# Altium footprint library GH_PcbLib.PcbLib: 29 footprints (part 1 of 2)
Each footprint in its own frame and in the unit in brackets; x right, y up, seen from the top. Pads: shape width x height; smd on the part's side, far side on the other; paste and mask are expansions set on the pad; w line width, h text height; cw(c..) or ccw(c..) is an arc to the next point about the centre after c.
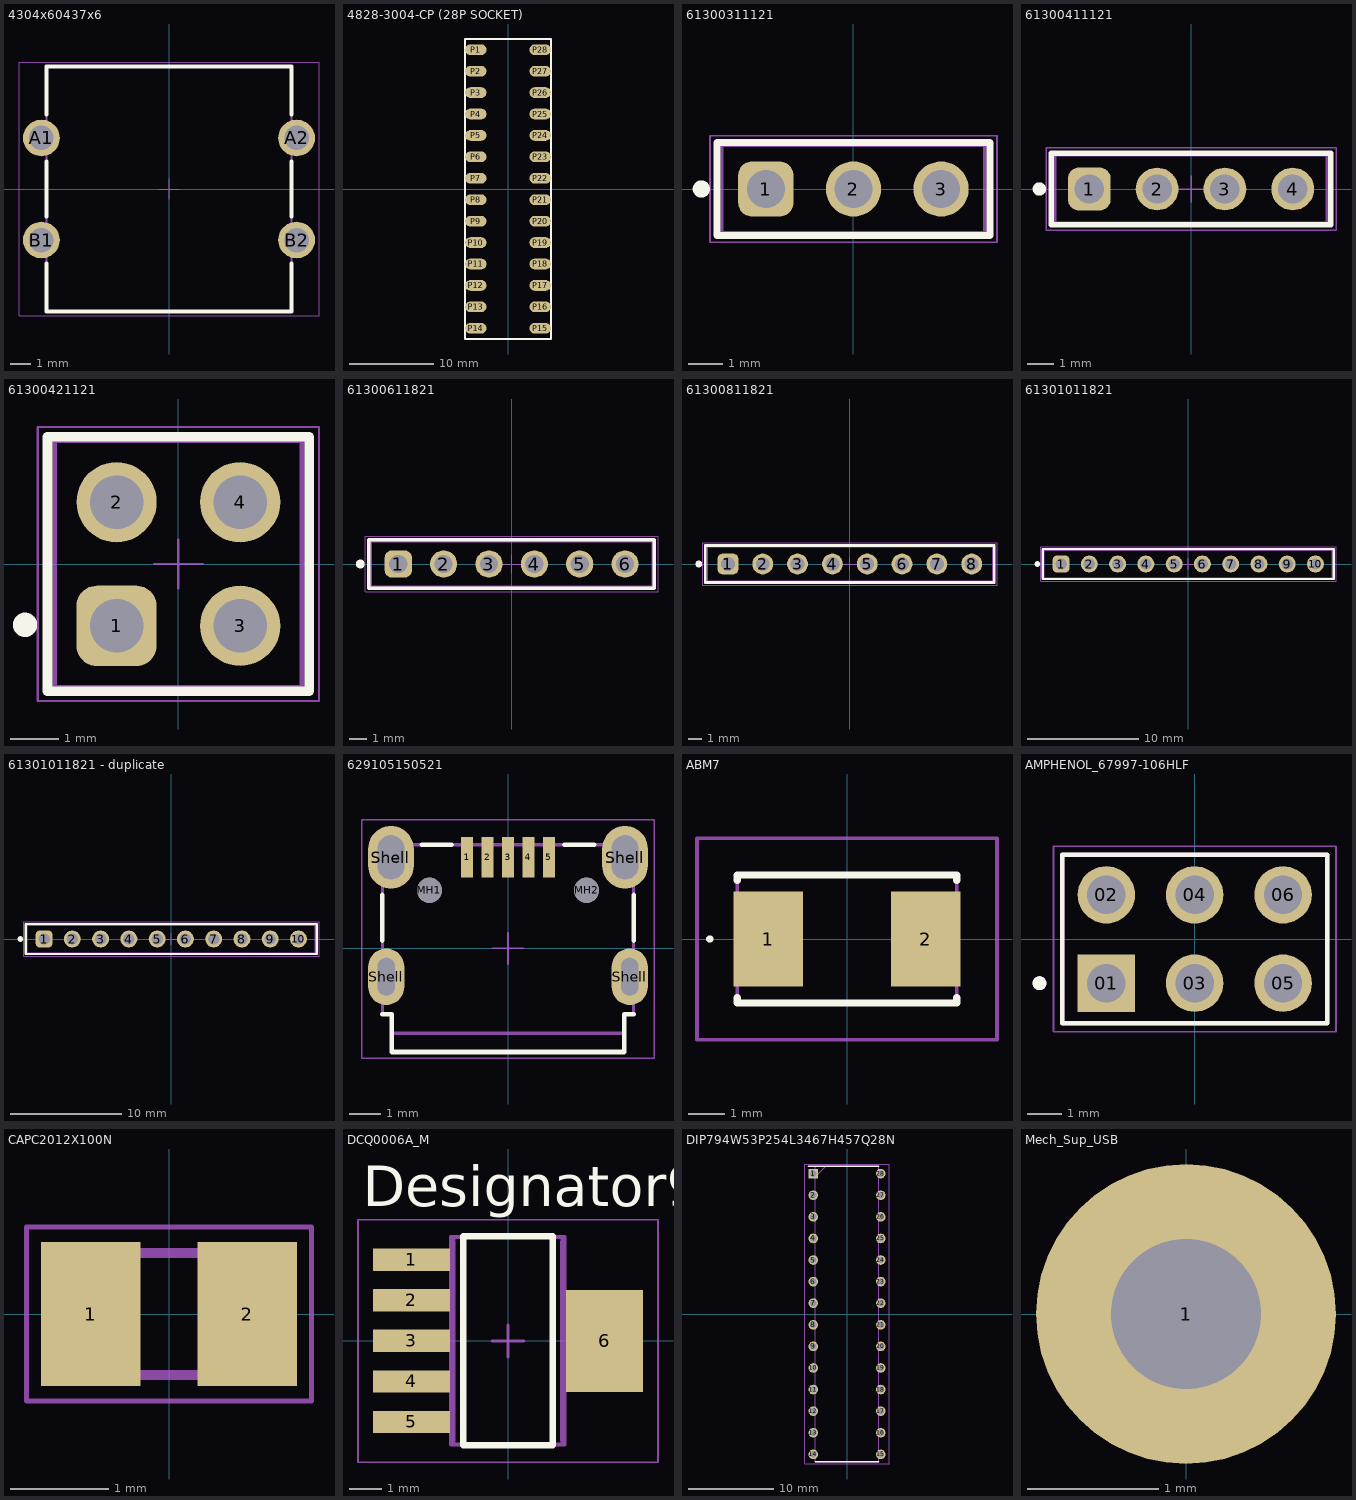
[diagram p0: the footprints below, top view; thin cyan lines are the x and y axes]

## 4304x60437x6 [mm] "12x12mm washable Tact Switch, THT version"
height 4.3
pads (4):
  round 1.8 hole 1.2: A1(-6.25,2.5) A2(6.25,2.5) B1(-6.25,-2.5) B2(6.25,-2.5)
Top Overlay:
  lines w0.2: -6,-3.65 -6,-6 6,-6 6,-3.65 ; -6,-1.35 -6,1.35 ; -6,3.65 -6,6 6,6 6,3.65 ; 6,-1.35 6,1.35
Top Courtyard:
  lines w0.05: -0.5,0 0.5,0 ; 0,-0.5 0,0.5 ; -7.35,-6.2 7.35,-6.2 7.35,6.2 -7.35,6.2 -7.35,-6.2
Top Component Outline:
  lines w0.1: -6,-6 -6,6 6,6 6,-6 -6,-6
Top Designator:
  text ".Designator" at -7.498,-0.5 h1.5
3D body "4304x60437x6.stp": height 4.35, standoff -3.45, extent -6.985,-6 6.986,6

## 4828-3004-CP (28P SOCKET) [mm] "28 pin socket for ATMega328PU"
pads (28):
  oval 2.54x1.27 hole 0.001: P1(-3.81,16.51) P2(-3.81,13.97) P3(-3.81,11.43) P4(-3.81,8.89) P5(-3.81,6.35) P6(-3.81,3.81) P7(-3.81,1.27) P8(-3.81,-1.27) P9(-3.81,-3.81) P10(-3.81,-6.35) P11(-3.81,-8.89) P12(-3.81,-11.43) P13(-3.81,-13.97) P14(-3.81,-16.51) P15(3.81,-16.51) P16(3.81,-13.97) P17(3.81,-11.43) P18(3.81,-8.89) P19(3.81,-6.35) P20(3.81,-3.81) P21(3.81,-1.27) P22(3.81,1.27) P23(3.81,3.81) P24(3.81,6.35) P25(3.81,8.89) P26(3.81,11.43) P27(3.81,13.97) P28(3.81,16.51)
Top Overlay:
  lines w0.254: -5.08,-17.78 5.08,-17.78 5.08,17.78 -5.08,17.78 -5.08,-17.78

## 61300311121 [mm] "Pin Header, pitch 2.54 mm, THT, Vertical, single row, 3p"
height 8.54
pads (3):
  rrect50% 1.6x1.6 hole 1.1: 1(-2.54,0)
  round 1.6 hole 1.1: 2(0,0) 3(2.54,0)
Top Overlay:
  circle w0.25: c-4.41,0 r0.125
  lines w0.2: -3.96,-1.345 -3.96,1.345 3.96,1.345 3.96,-1.345 -3.96,-1.345
Top Courtyard:
  lines w0.05: -4.16,-1.545 4.16,-1.545 4.16,1.545 -4.16,1.545 -4.16,-1.545
Top Component Outline:
  lines w0.1: -3.81,-1.27 3.81,-1.27 3.81,1.27 -3.81,1.27 -3.81,-1.27
Top Component Center:
  lines w0.05: -0.5,0 0.5,0 ; 0,-0.5 0,0.5
Top Designator:
  text ".Designator" at -7.498,-0.5 h1.5
3D body "61300311121.stp": height 8.57, standoff -2.97, extent -3.81,-1.27 3.81,1.27

## 61300411121 [mm] "Pin Header, pitch 2.54 mm, THT, Vertical, single row, 4p"
height 8.54
pads (4):
  rrect50% 1.6x1.6 hole 1.1: 1(-3.81,0)
  round 1.6 hole 1.1: 2(-1.27,0) 3(1.27,0) 4(3.81,0)
Top Overlay:
  circle w0.25: c-5.68,0 r0.125
  lines w0.2: -5.23,-1.345 -5.23,1.345 5.23,1.345 5.23,-1.345 -5.23,-1.345
Top Courtyard:
  lines w0.05: -5.43,-1.545 5.43,-1.545 5.43,1.545 -5.43,1.545 -5.43,-1.545
Top Component Outline:
  lines w0.1: -5.08,-1.27 5.08,-1.27 5.08,1.27 -5.08,1.27 -5.08,-1.27
Top Component Center:
  lines w0.05: -0.5,0 0.5,0 ; 0,-0.5 0,0.5
Top Designator:
  text ".Designator" at -7.498,-0.5 h1.5
3D body "61300411121.stp": height 8.57, standoff -2.97, extent -5.08,-1.27 5.08,1.27

## 61300421121 [mm] "Pin Header, pitch 2.54 mm, THT, Vertical, dual row, 4p"
height 8.54
pads (4):
  rrect50% 1.65x1.65 hole 1.1: 1(-1.27,-1.27)
  round 1.65 hole 1.1: 2(-1.27,1.27) 3(1.27,-1.27) 4(1.27,1.27)
Top Overlay:
  circle w0.25: c-3.15,-1.25 r0.125
  lines w0.2: -2.69,-2.615 2.69,-2.615 2.69,2.615 -2.69,2.615 -2.69,-2.615
Top Courtyard:
  lines w0.05: -2.89,-2.815 -2.89,2.815 2.89,2.815 2.89,-2.815 -2.89,-2.815
Top Component Outline:
  lines w0.1: -2.54,-2.54 2.54,-2.54 2.54,2.54 -2.54,2.54 -2.54,-2.54
Top Component Center:
  lines w0.05: -0.5,0 0.5,0 ; 0,-0.5 0,0.5
Top Designator:
  text ".Designator" at -7.498,-0.5 h1.5
3D body "61300421121.stp": height 8.59, standoff -2.95, extent -2.54,-2.54 2.54,2.54

## 61300611821 [mm] "Socket Header, Pitch 2.54 mm, THT, Vertical, single row, 6p"
height 8.5
pads (6):
  rrect50% 1.52x1.52 hole 1.02: 1(-6.35,0)
  round 1.52 hole 1.02: 2(-3.81,0) 3(-1.27,0) 4(1.27,0) 5(3.81,0) 6(6.35,0)
Top Overlay:
  circle w0.25: c-8.48,0 r0.125
  lines w0.2: -7.995,-1.35 -7.995,1.35 7.995,1.35 7.995,-1.35 -7.995,-1.35
Top Courtyard:
  lines w0.05: -8.195,-1.55 -8.195,1.55 8.195,1.55 8.195,-1.55 -8.195,-1.55
Top Component Outline:
  lines w0.1: -7.87,-1.25 -7.87,1.25 7.87,1.25 7.87,-1.25 -7.87,-1.25
Top Component Center:
  lines w0.05: -0.5,0 0.5,0 ; 0,-0.5 0,0.5
Top Designator:
  text ".Designator" at -7.498,-0.5 h1.5
3D body "61300611821.stp": height 8.55, standoff -3.06, extent -7.87,-1.25 7.87,1.25

## 61300811821 [mm] "Socket Header, Pitch 2.54 mm, THT, Vertical, single row, 8p"
height 8.5
pads (8):
  rrect50% 1.52x1.52 hole 1.02: 1(-8.89,0)
  round 1.52 hole 1.02: 2(-6.35,0) 3(-3.81,0) 4(-1.27,0) 5(1.27,0) 6(3.81,0) 7(6.35,0) 8(8.89,0)
Top Overlay:
  circle w0.25: c-11.02,0 r0.125
  lines w0.2: -10.535,-1.35 -10.535,1.35 10.535,1.35 10.535,-1.35 -10.535,-1.35
Top Courtyard:
  lines w0.05: -10.735,-1.55 -10.735,1.55 10.735,1.55 10.735,-1.55 -10.735,-1.55
Top Component Outline:
  lines w0.1: -10.41,-1.25 -10.41,1.25 10.41,1.25 10.41,-1.25 -10.41,-1.25
Top Component Center:
  lines w0.05: -0.5,0 0.5,0 ; 0,-0.5 0,0.5
Top Designator:
  text ".Designator" at -7.498,-0.5 h1.5
3D body "61300811821.stp": height 8.55, standoff -3.06, extent -10.41,-1.25 10.41,1.25

## 61301011821 [mm] "Socket Header, Pitch 2.54 mm, THT, Vertical, single row, 10p"
height 8.5
pads (10):
  rrect50% 1.52x1.52 hole 1.02: 1(-11.43,0)
  round 1.52 hole 1.02: 2(-8.89,0) 3(-6.35,0) 4(-3.81,0) 5(-1.27,0) 6(1.27,0) 7(3.81,0) 8(6.35,0) 9(8.89,0) 10(11.43,0)
Top Overlay:
  circle w0.25: c-13.56,0 r0.125
  lines w0.2: -13.075,-1.35 -13.075,1.35 13.075,1.35 13.075,-1.35 -13.075,-1.35
Top Courtyard:
  lines w0.05: -13.275,-1.55 -13.275,1.55 13.275,1.55 13.275,-1.55 -13.275,-1.55
Top Component Outline:
  lines w0.1: -12.95,-1.25 -12.95,1.25 12.95,1.25 12.95,-1.25 -12.95,-1.25
Top Component Center:
  lines w0.05: -0.5,0 0.5,0 ; 0,-0.5 0,0.5
Top Designator:
  text ".Designator" at -7.498,-0.5 h1.5
3D body "61301011821.stp": height 8.55, standoff -3.06, extent -12.95,-1.25 12.95,1.25

## 61301011821 - duplicate [mm] "Socket Header, Pitch 2.54 mm, THT, Vertical, single row, 10p"
height 8.5
pads (10):
  rrect50% 1.52x1.52 hole 1.02: 1(-11.43,0)
  round 1.52 hole 1.02: 2(-8.89,0) 3(-6.35,0) 4(-3.81,0) 5(-1.27,0) 6(1.27,0) 7(3.81,0) 8(6.35,0) 9(8.89,0) 10(11.43,0)
Top Overlay:
  circle w0.25: c-13.56,0 r0.125
  lines w0.2: -13.075,-1.35 13.075,-1.35 13.075,1.35 -13.075,1.35 -13.075,-1.35
Top Courtyard:
  lines w0.05: -13.275,-1.55 13.275,-1.55 13.275,1.55 -13.275,1.55 -13.275,-1.55
Top Component Outline:
  lines w0.1: -12.95,-1.25 12.95,-1.25 12.95,1.25 -12.95,1.25 -12.95,-1.25
Top Component Center:
  lines w0.05: -0.5,0 0.5,0 ; 0,-0.5 0,0.5
Top Designator:
  text ".Designator" at -7.498,-0.5 h1.5
3D body "61301011821.stp": height 8.55, standoff -3.06, extent -12.95,-1.25 12.95,1.25

## 629105150521 [mm] "Micro USB 2.0 SMT Type B Horizontal 5 Contacts High Current"
height 2.66
pads (11):
  rect 0.381x1.295 smd: 1(-1.3,2.9) 2(-0.65,2.9) 3(0,2.9) 4(0.65,2.9) 5(1.3,2.9)
  round 0.8 hole 0.8 unplated: MH1(-2.5,1.85) MH2(2.5,1.85)
  oval 1.15x1.8 hole 0.55 slot 1.2 at 90 deg: Shell(-3.875,-0.9) Shell(3.875,-0.9)
  oval 1.45x2 hole 0.85 slot 1.4 at 90 deg: Shell(-3.725,2.9) Shell(3.725,2.9)
Top Overlay:
  lines w0.15: -4,-2.1 -3.7,-2.1 -3.7,-3.3 3.7,-3.3 3.7,-2.1 4,-2.1 ; -4,0.25 -4,1.7 ; -2.75,3.3 -1.8,3.3 ; 1.8,3.3 2.75,3.3 ; 4,0.25 4,1.7
Assembly Notes:
  lines w0.1: -3.7,-2.7 3.7,-2.7
  text "PCB Edge" at -1.3,-3.3 h0.41
Top Courtyard:
  lines w0.05: -4.65,-3.5 4.65,-3.5 4.65,4.1 -4.65,4.1 -4.65,-3.5
Top Component Outline:
  lines w0.1: -4,-2.1 -3.7,-2.1 -3.7,-3.3 3.7,-3.3 3.7,-2.1 4,-2.1 4,3.3 -4,3.3 -4,-2.1
Top Component Center:
  lines w0.05: -0.5,0 0.5,0 ; 0,-0.5 0,0.5
Top Designator:
  text ".Designator" at -7.498,-0.5 h1.5
3D body "629105150521.stp": height 2.75, standoff -1.77, extent -4,-3.3 4,3.303

## ABM7 [mm]
pads (2):
  rect 1.9x2.6 smd: 1(-2.15,0) 2(2.15,0)
Top Overlay:
  lines w0.1: -3.8,0 ccw(c-3.75,0) -3.7,0 ccw(c-3.75,0) -3.8,0
  lines w0.2: -3,-1.6 -3,-1.75 3,-1.75 3,-1.6 ; -3,1.6 -3,1.75 3,1.75 3,1.6
Mechanical 13:
  lines w0.1: -3,-1.75 3,-1.75 3,1.75 -3,1.75 -3,-1.75
Mechanical 15:
  lines w0.1: -4.1,-2.75 4.1,-2.75 4.1,2.75 -4.1,2.75 -4.1,-2.75
3D body "ABM7-16.000MHZ-D2Y-T.stp": height 1.4, standoff 0, extent -3,-1.75 3,1.75

## AMPHENOL_67997-106HLF [mm]
pads (6):
  rect 1.65x1.65 hole 1.1: 01(-2.54,-1.27)
  round 1.65 hole 1.1: 02(-2.54,1.27) 03(0,-1.27) 04(0,1.27) 05(2.54,-1.27) 06(2.54,1.27)
Top Overlay:
  circle w0.2: c-4.46,-1.27 r0.1
  lines w0.127: -3.81,-2.415 -3.81,2.415 3.81,2.415 3.81,-2.415 -3.81,-2.415
Mechanical 13:
  circle w0.2: c-4.46,-1.27 r0.1
  lines w0.127: -3.81,-2.415 -3.81,2.415 ; -3.81,-2.415 3.81,-2.415 ; -3.81,-2.415 -3.81,2.415 ; -3.81,2.415 3.81,2.415 ; -3.81,2.415 3.81,2.415 ; 3.81,-2.415 3.81,2.415 ; 3.81,-2.415 3.81,2.415
Mechanical 15:
  lines w0.05: -4.06,-2.665 -4.06,2.665 4.06,2.665 4.06,-2.665 -4.06,-2.665
3D body "step_temp.STEP": height 8.38, standoff -3.05, extent -3.81,-2.415 3.81,2.415

## CAPC2012X100N [mm]
pads (2):
  rect 1.02x1.47 smd: 1(-0.8,0) 2(0.8,0)
Mechanical 13:
  lines w0.1: -1,-0.625 -1,0.625 1,0.625 1,-0.625 -1,-0.625
Mechanical 15:
  lines w0.05: -1.46,-0.89 -1.46,0.89 1.46,0.89 1.46,-0.89 -1.46,-0.89
3D body "C0805C103K1HACAUTO.stp": height 1, standoff 0, extent -1,-0.625 1,0.625

## DCQ0006A_M [mm]
pads (6):
  rect 2.4x0.7 smd paste+0 mask+0.051: 1(-3.025,2.54) 2(-3.025,1.27) 3(-3.025,0) 4(-3.025,-1.27) 5(-3.025,-2.54)
  rect 2.4x3.2 smd paste+0 mask+0.051: 6(3.025,0)
Top Overlay:
  lines w0.2: -1.4,-3.275 1.4,-3.275 1.4,3.275 -1.4,3.275 -1.4,-3.275
  text "Designator9" at -4.547,4.216 h1.27
Mechanical 13:
  lines w0.127: -1.713,-3.178 -1.785,-3.25 ; -1.713,3.178 -1.785,3.25 ; -1.707,-3.102 -1.707,3.102 ; 1.697,-3.102 1.697,3.102 ; 1.703,-3.178 1.775,-3.25 ; 1.703,3.178 1.775,3.25 ; -1.785,-3.25 -1.785,3.25 ; -1.785,-3.25 1.775,-3.25 ; -1.785,3.25 1.775,3.25 ; 1.775,-3.25 1.775,3.25 ; -3.485,-2.781 -2.951,-2.781 -2.834,-2.781 -2.758,-2.781 -2.364,-2.781 -1.785,-2.781 -1.785,-2.299 -2.364,-2.299 -2.758,-2.299 -2.834,-2.299 -2.951,-2.299 -3.485,-2.299 -3.485,-2.781 ; -3.485,-1.511 -2.951,-1.511 -2.834,-1.511 -2.758,-1.511 -2.364,-1.511 -1.785,-1.511 -1.785,-1.029 -2.364,-1.029 -2.758,-1.029 -2.834,-1.029 -2.951,-1.029 -3.485,-1.029 -3.485,-1.511 ; -3.485,-0.241 -2.951,-0.241 -2.834,-0.241 -2.758,-0.241 -2.364,-0.241 -1.785,-0.241 -1.785,0.241 -2.364,0.241 -2.758,0.241 -2.834,0.241 -2.951,0.241 -3.485,0.241 -3.485,-0.241 ; -3.485,1.029 -2.951,1.029 -2.834,1.029 -2.758,1.029 -2.364,1.029 -1.785,1.029 -1.785,1.511 -2.364,1.511 -2.758,1.511 -2.834,1.511 -2.951,1.511 -3.485,1.511 -3.485,1.029 ; -3.485,2.299 -2.951,2.299 -2.834,2.299 -2.758,2.299 -2.364,2.299 -1.785,2.299 -1.785,2.781 -2.364,2.781 -2.758,2.781 -2.834,2.781 -2.951,2.781 -3.485,2.781 -3.485,2.299 ; 1.775,-1.5 2.354,-1.5 2.748,-1.5 2.824,-1.5 2.941,-1.5 3.475,-1.5 3.475,1.5 2.941,1.5 2.824,1.5 2.748,1.5 2.354,1.5 1.775,1.5 1.775,-1.5
Mechanical 15:
  lines w0.05: -4.7,-3.8 -4.7,3.8 4.7,3.8 4.7,-3.8 -4.7,-3.8
  lines w0.1: -0.5,0 0.5,0 ; 0,-0.5 0,0.5

## DIP794W53P254L3467H457Q28N [mm]
pads (28):
  rect 1.133x1.133 / inner round 1.133 / far side rect 1.133x1.133 hole 0.733: 1(-3.969,16.51)
  round 1.133 hole 0.733: 2(-3.969,13.97) 3(-3.969,11.43) 4(-3.969,8.89) 5(-3.969,6.35) 6(-3.969,3.81) 7(-3.969,1.27) 8(-3.969,-1.27) 9(-3.969,-3.81) 10(-3.969,-6.35) 11(-3.969,-8.89) 12(-3.969,-11.43) 13(-3.969,-13.97) 14(-3.969,-16.51) 15(3.969,-16.51) 16(3.969,-13.97) 17(3.969,-11.43) 18(3.969,-8.89) 19(3.969,-6.35) 20(3.969,-3.81) 21(3.969,-1.27) 22(3.969,1.27) 23(3.969,3.81) 24(3.969,6.35) 25(3.969,8.89) 26(3.969,11.43) 27(3.969,13.97) 28(3.969,16.51)
Top Overlay:
  lines w0.2: -4.535,17.399 3.746,17.399 ; -3.746,-17.399 3.746,-17.399
Mechanical 15:
  lines w0.1: -3.746,16.129 -2.476,17.399 ; -3.746,-17.399 -3.746,17.399 3.746,17.399 3.746,-17.399 -3.746,-17.399
Mechanical 20:
  lines w0.05: -4.944,-17.649 -4.944,17.649 4.944,17.649 4.944,-17.649 -4.944,-17.649

## Mech_Sup_USB [mil]
pads (1):
  round 90 hole 45: 1(0,0)